# Altium schematic symbol library ZX62M-B-5P_01_.SchLib: 1 symbol
Pins are listed as number, name and electrical type; pins without a type are passive.

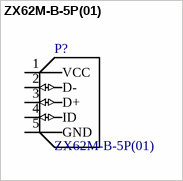
[diagram p0: symbol ZX62M-B-5P(01)]

## ZX62M-B-5P(01)
designator P?
Conn Micro USB 2.0 Type B RCP 5 POS 0.65mm Solder RA SMD 5 Terminal 1 Port T/R; MF: Hirose; Availability: Unavailable; MP: ZX62M-B-5P(01); Price: None; Package: None; Value: *
footprint HRS_ZX62M-B-5P(01)
pins: 1 VCC (power), 2 D- (io), 3 D+ (io), 4 ID (io), 5 GND